# Altium schematic symbol library GL5506.SchLib: 1 symbol
Pins are listed as number, name and electrical type; pins without a type are passive.

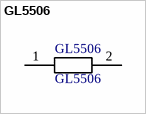
[diagram p0: symbol GL5506]

## GL5506
designator GL5506
footprint GL5506
pins: 1, 2